# EAGLE library part 6566 (library commodore)
Video IC, PAL-version, used in the Commodore 64 and VIC-10. 6567 NTSC version is pin compatible.
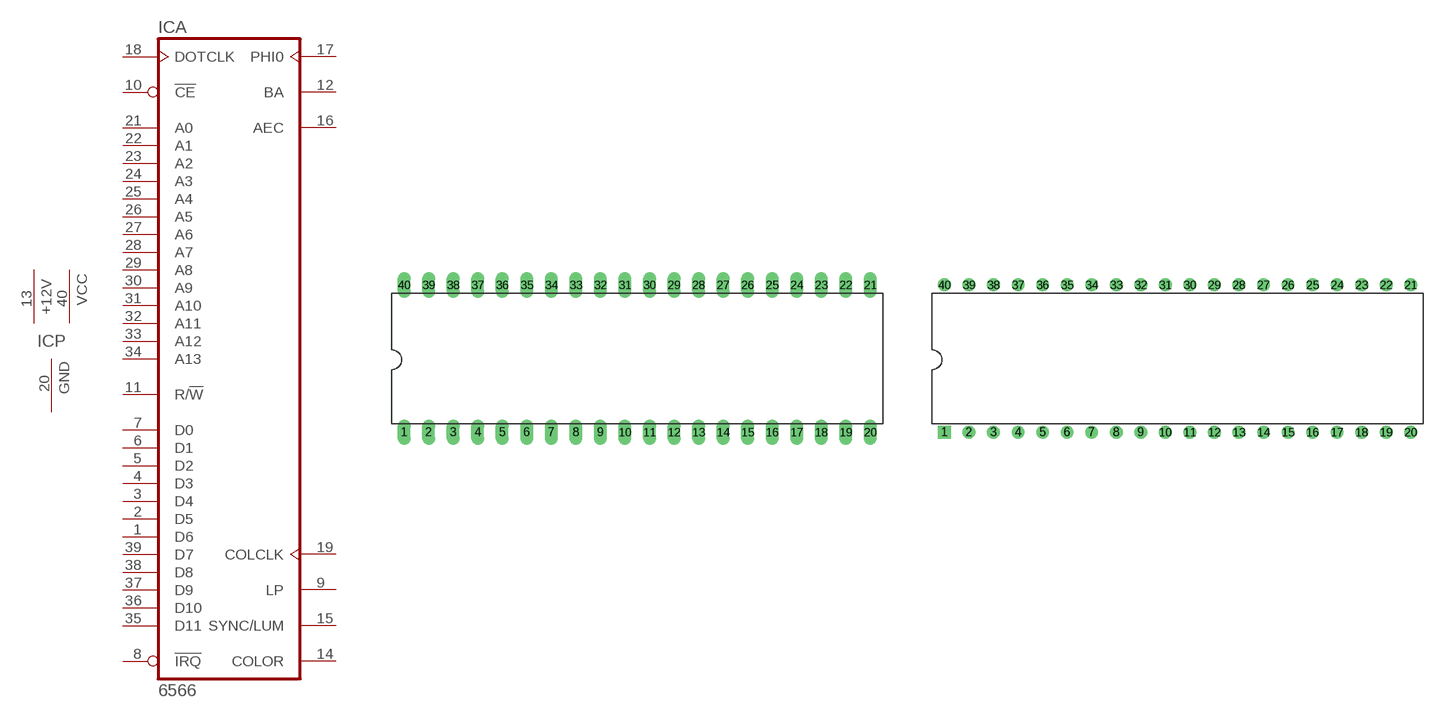
[diagram p23: symbol with the pads of DIL40; footprints DIL40, DIL40-ROUNDPAD]

Designator prefix IC; gates A=6566 P=PWR2-GND

## 6566  [DIL40]
1  A:D6  hiz
2  A:D5  hiz
3  A:D4  hiz
4  A:D3  hiz
5  A:D2  hiz
6  A:D1  hiz
7  A:D0  hiz
8  A:!IRQ  oc
9  A:LP  in
10  A:!CE  in
11  A:R/!W  in
12  A:BA  out
13  P:V12  pwr
14  A:COLOR  out
15  A:SYNC/LUM  out
16  A:AEC  out
17  A:PHI0  out
18  A:DOTCLK  in
19  A:COLCLK  in
20  P:GND  pwr
21  A:A0  hiz
22  A:A1  hiz
23  A:A2  hiz
24  A:A3  hiz
25  A:A4  hiz
26  A:A5  hiz
27  A:A6  hiz
28  A:A7  hiz
29  A:A8  hiz
30  A:A9  hiz
31  A:A10  hiz
32  A:A11  hiz
33  A:A12  hiz
34  A:A13  hiz
35  A:D11  hiz
36  A:D10  hiz
37  A:D9  hiz
38  A:D8  hiz
39  A:D7  hiz
40  P:VCC  pwr

## 6566-RP  [DIL40-ROUNDPAD]
Pads as for DIL40

## Footprint DIL40 (pad centres in mm)
Dual In Line Package
drill 0.813 long: 1 -24.13,-7.62; 2 -21.59,-7.62; 3 -19.05,-7.62; 4 -16.51,-7.62; 5 -13.97,-7.62; 6 -11.43,-7.62; 7 -8.89,-7.62; 8 -6.35,-7.62; 9 -3.81,-7.62; 10 -1.27,-7.62; 11 1.27,-7.62; 12 3.81,-7.62; 13 6.35,-7.62; 14 8.89,-7.62; 15 11.43,-7.62; 16 13.97,-7.62; 17 16.51,-7.62; 18 19.05,-7.62; 19 21.59,-7.62; 20 24.13,-7.62; 21 24.13,7.62; 22 21.59,7.62; 23 19.05,7.62; 24 16.51,7.62; 25 13.97,7.62; 26 11.43,7.62; 27 8.89,7.62; 28 6.35,7.62; 29 3.81,7.62; 30 1.27,7.62; 31 -1.27,7.62; 32 -3.81,7.62; 33 -6.35,7.62; 34 -8.89,7.62; 35 -11.43,7.62; 36 -13.97,7.62; 37 -16.51,7.62; 38 -19.05,7.62; 39 -21.59,7.62; 40 -24.13,7.62

## Footprint DIL40-ROUNDPAD (pad centres in mm)
Dual In Line Package
drill 0.813 square: 1 -24.13,-7.62
drill 0.813: 2 -21.59,-7.62; 3 -19.05,-7.62; 4 -16.51,-7.62; 5 -13.97,-7.62; 6 -11.43,-7.62; 7 -8.89,-7.62; 8 -6.35,-7.62; 9 -3.81,-7.62; 10 -1.27,-7.62; 11 1.27,-7.62; 12 3.81,-7.62; 13 6.35,-7.62; 14 8.89,-7.62; 15 11.43,-7.62; 16 13.97,-7.62; 17 16.51,-7.62; 18 19.05,-7.62; 19 21.59,-7.62; 20 24.13,-7.62; 21 24.13,7.62; 22 21.59,7.62; 23 19.05,7.62; 24 16.51,7.62; 25 13.97,7.62; 26 11.43,7.62; 27 8.89,7.62; 28 6.35,7.62; 29 3.81,7.62; 30 1.27,7.62; 31 -1.27,7.62; 32 -3.81,7.62; 33 -6.35,7.62; 34 -8.89,7.62; 35 -11.43,7.62; 36 -13.97,7.62; 37 -16.51,7.62; 38 -19.05,7.62; 39 -21.59,7.62; 40 -24.13,7.62